# Altium footprint library THD Discrete Semiconductors.PcbLib: 20 footprints (part 2 of 2)
Each footprint in its own frame and in the unit in brackets; x right, y up, seen from the top. Pads: shape width x height; smd on the part's side, far side on the other; paste and mask are expansions set on the pad; w line width, h text height; cw(c..) or ccw(c..) is an arc to the next point about the centre after c.
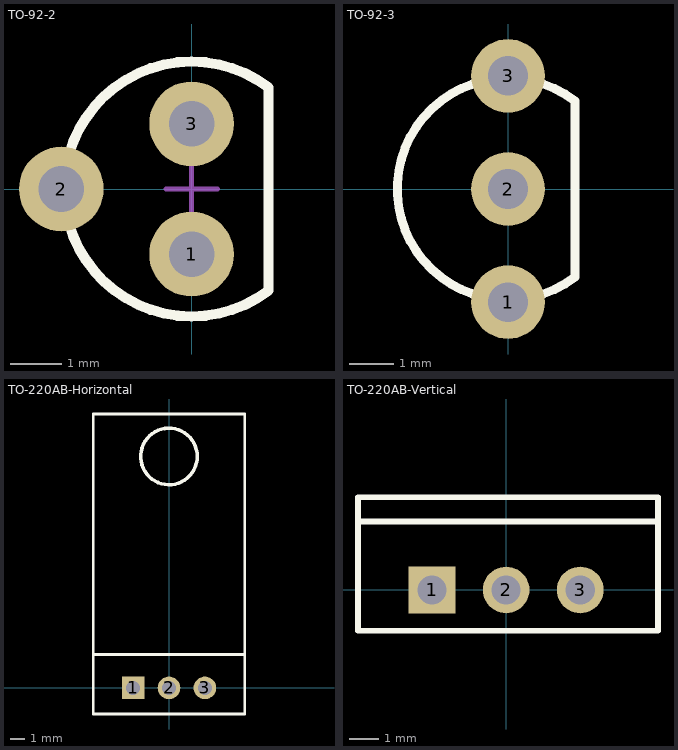
[diagram p1: the footprints below, top view; thin cyan lines are the x and y axes]

## TO-92-2 [mil] "TO, Flat Index; 3 In-Line, Axial Leads; Body Dia. 4.5mm; Leads 0.51 x 0.48 mm (max)"
height 270.08
pads (3):
  round 65 hole 35: 1(0,-50) 2(-100,0) 3(0,50)
Top Overlay:
  lines w7.87: 59.06,-77.95 cw(c0,0) 59.06,77.95 59.05,-77.95
Mechanical 15:
  lines w3.94: -19.68,0 19.68,0 ; 0,-19.68 0,19.69
3D body "TO-92-7.STEP": height 394.65, standoff -97.48, extent -107.88,-98.42 55.63,98.43

## TO-92-3 [mil] "TO, Flat Index; 3 In-Line, Axial Leads; Body Dia. 4.5mm; Leads 0.51 x 0.48 mm (max)"
height 270.08
pads (3):
  round 65 hole 35: 1(0,-100) 2(0,0) 3(0,100)
Top Overlay:
  lines w7.87: 59.06,-77.95 cw(c0,0) 59.06,77.95 59.05,-77.95
Mechanical 15:
  lines w3.94: -19.68,0 19.68,0 ; 0,-19.68 0,19.69
3D body "TO-92-8.STEP": height 374.96, standoff -58.98, extent -94.49,-109.73 63.82,109.75

## TO-220AB-Horizontal [mm] "TO, Thru-Hole, Vertical, Heatsink Mounted; 3 In-Line Leads; Pitch 2.54 mm"
height 19.3
pads (3):
  rect 1.6x1.6 hole 1: 1(-2.54,0)
  round 1.6 hole 1: 2(0,0) 3(2.54,0)
Top Overlay:
  circle w0.254: c0,16.36 r2
  lines w0.2: -5.35,2.35 5.35,2.35 ; -5.35,-1.85 -5.35,19.36 5.35,19.36 5.35,-1.85 -5.35,-1.85
3D body "TO-220AB-Horizontal.STEP": height 4.2, standoff -3, extent -5.08,-0.25 5.08,19.24

## TO-220AB-Vertical [mm] "TO, Thru-Hole, Vertical, Heatsink Mounted; 3 In-Line Leads; Pitch 2.54 mm"
height 19.3
pads (3):
  rect 1.6x1.6 hole 1: 1(-2.54,0)
  round 1.6 hole 1: 2(0,0) 3(2.54,0)
Top Overlay:
  lines w0.2: -5.08,2.35 5.08,2.35 ; -5.08,-1.397 5.207,-1.397 5.207,3.175 -5.08,3.175 -5.08,-1.397
3D body "TO-220AB-Vertical.STEP": height 18.54, standoff -3.81, extent -5.08,-1.397 5.08,3.175